# Altium integrated library Linear Technology Power Management Battery Management.IntLib: 626 symbols (part 7 of 56)
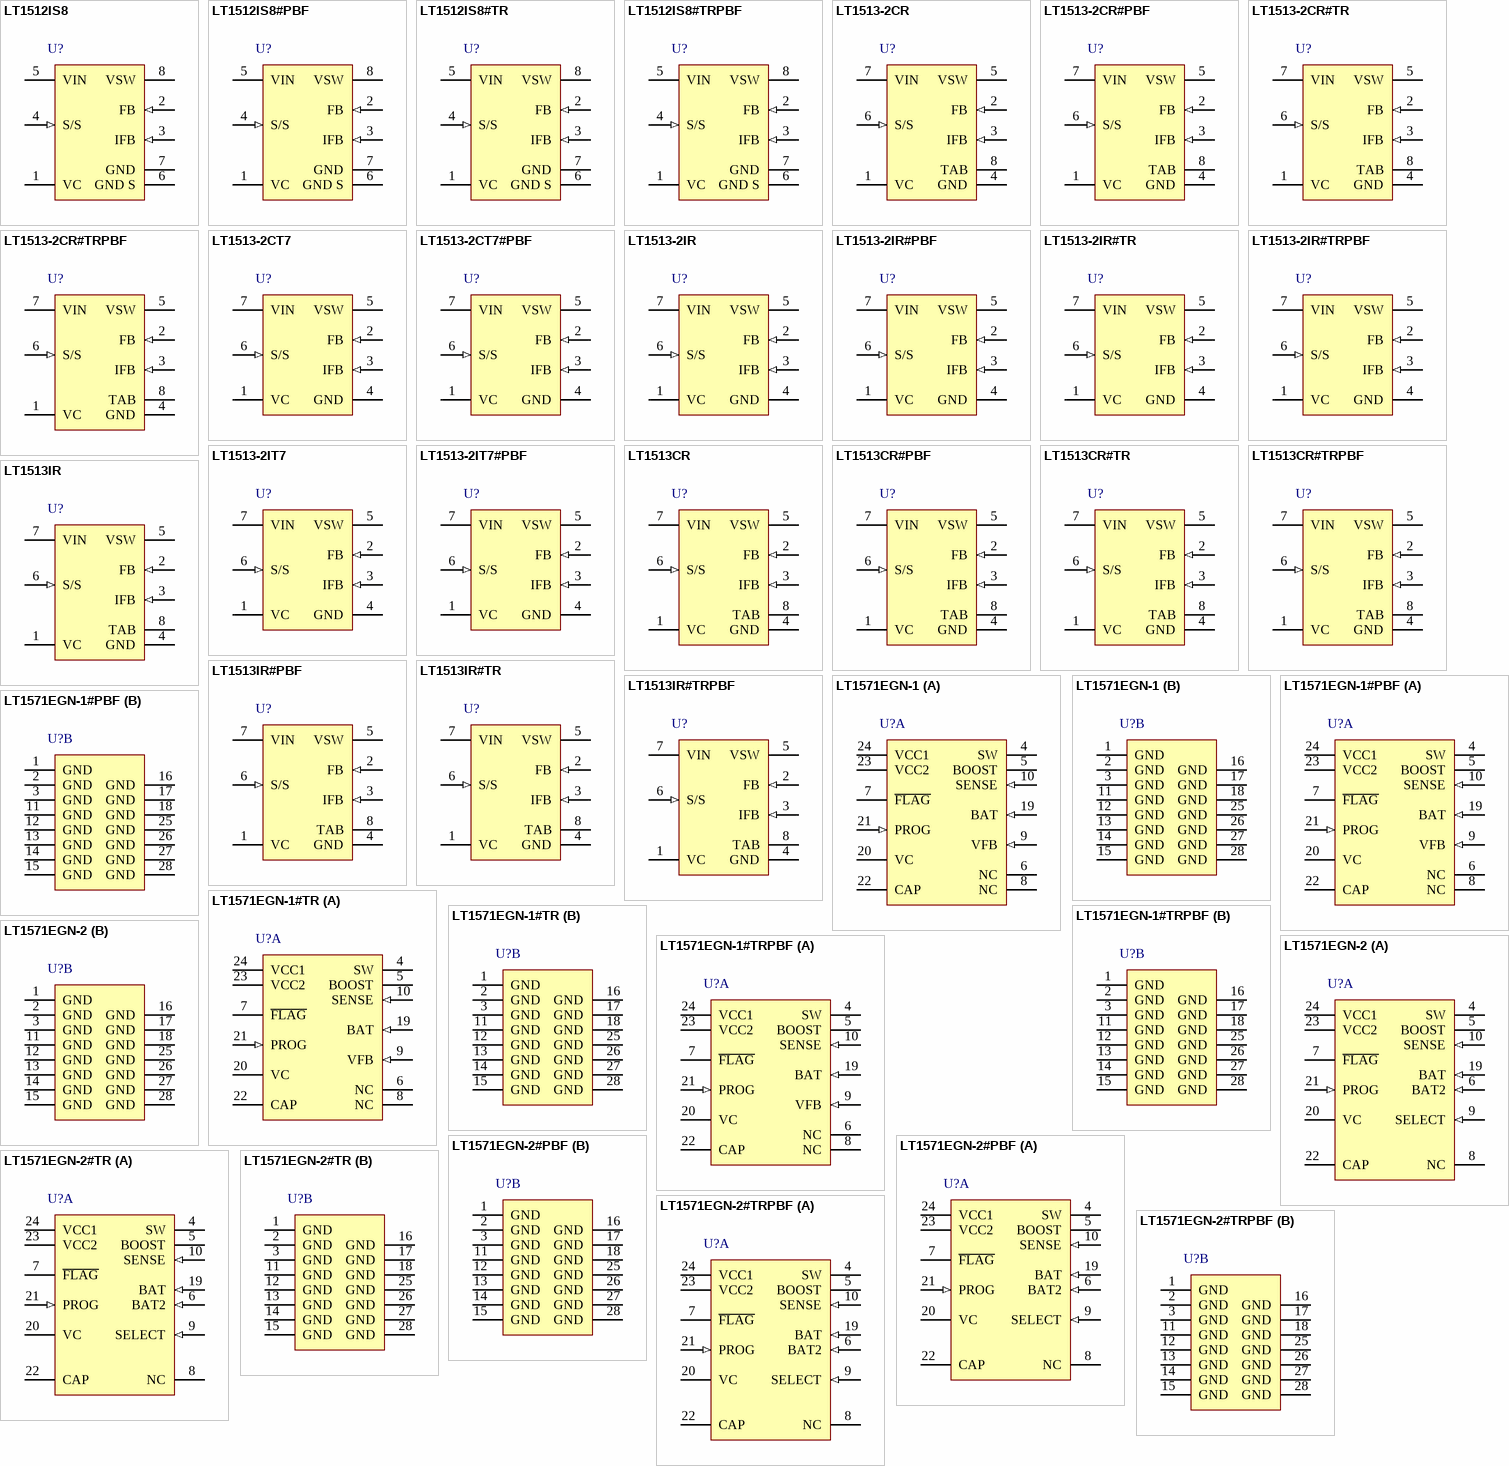
[diagram p28: symbols LT1512IS8 to LT1571EGN-2#TRPBF]

## LT1513-2IT7
designator U?
SEPIC Constant or Programmable-Current / Constant-Voltage Battery Charger, 2.4 to 30 V Vin, 7-pin FM (T7-7), -40 to 125 degC; Manufacturer: Linear Technology; PartNumber: LT1513-2IT7; Battery Chemistry: Li-Ion, Li-Polymer, NiCd, NiMH, Lead Acid; Charge Termination: External; Float Voltage: Adj; Max Charge Current(A): 2; Number of Cells: 1 to 4 (Li), 1 to 18 (Ni); Type of Charger: Switching, Buck-Boost; Vin Max(V): 30; Vin Min(V): 2.4; DatasheetVersion: Rev. A; PackageReference: T7-7; PackageDescription: 7-Pin Plastic TO-220, Body 10.2235 x 4.3815 mm, Pitch 1.27 mm; Supplier 1: Digi-Key; Supplier Part Number 1: LT1513-2IT7-ND; RoHS: FALSE; Mounting Technology: Through Hole; ComponentLink1Description: Manufacturer URL; ComponentLink1URL: http://www.linear.com/; ComponentLink2Description: Datasheet; ComponentLink2URL: http://cds.linear.com/docs/en/datasheet/1513fas.pdf; ComponentLink3Description: Package Specification; ComponentLink3URL: http://cds.linear.com/docs/en/datasheet/1513fas.pdf
footprint LT-T7-7-SD (FM, 7-Leads, Body 10.55x4.6mm, Pitch 1.27mm)
pins: 1 VC "The compensation pin is primarily used for frequency compensation, but it can also be used for soft starting and current limiting. It is the output of the error amplifier and the input of the current comparator. Peak switch (See Datasheet)", 2 FB (in) "The feedback pin is used for positive output voltage sensing. The R1/R2 voltage divider connected to FB defines Li-Ion float voltage at full charge, or acts as a voltage limiter for NiCd or NiMH applications. FB is the (See Datasheet)", 3 IFB (in) "The current feedback pin is used to sense charging current. It is the input to a current sense amplifier that controls charging current when the battery voltage is below a programmed limit. During constant-current operation, (See Datasheet)", 4 GND (power) "The ground pin is common to both control circuitry and switch current. VC, FB and S/S signals must be Kelvin and connected as close as possible to this pin. The TAB of the R package should also be connected to the power (See Datasheet)", 5 VSW (power) "The switch pin is the collector of the power switch, carrying up to 3A of current with fast rise and fall times. Keep the traces on this pin as short as possible to minimize radiation and voltage spikes. In particular, the (See Datasheet)", 6 S/S (in) "This pin can be used for shutdown and/or synchronization. It is logic level compatible, but can be tied to VIN if desired. It defaults to a high ON state when floated. A logic low state will shut down the charger to a (See Datasheet)", 7 VIN (power) "The input supply pin should be bypassed with a low ESR capacitor located right next to the IC chip. The grounded end of the capacitor must be connected directly to the ground plane to which the TAB is connected."

## LT1513-2IT7#PBF
designator U?
SEPIC Constant or Programmable-Current / Constant-Voltage Battery Charger, 2.4 to 30 V Vin, 7-pin FM (T7-7), -40 to 125 degC, Pb-Free; Manufacturer: Linear Technology; PartNumber: LT1513-2IT7#PBF; Battery Chemistry: Li-Ion, Li-Polymer, NiCd, NiMH, Lead Acid; Charge Termination: External; Float Voltage: Adj; Max Charge Current(A): 2; Number of Cells: 1 to 4 (Li), 1 to 18 (Ni); Type of Charger: Switching, Buck-Boost; Vin Max(V): 30; Vin Min(V): 2.4; DatasheetVersion: Rev. A; PackageReference: T7-7; PackageDescription: 7-Pin Plastic TO-220, Body 10.2235 x 4.3815 mm, Pitch 1.27 mm; Supplier 1: Digi-Key; Supplier Part Number 1: LT1513-2IT7#PBF-ND; RoHS: TRUE; Mounting Technology: Through Hole; ComponentLink1Description: Manufacturer URL; ComponentLink1URL: http://www.linear.com/; ComponentLink2Description: Datasheet; ComponentLink2URL: http://cds.linear.com/docs/en/datasheet/1513fas.pdf; ComponentLink3Description: Package Specification; ComponentLink3URL: http://cds.linear.com/docs/en/datasheet/1513fas.pdf
footprint LT-T7-7-SD (FM, 7-Leads, Body 10.55x4.6mm, Pitch 1.27mm)
pins: 1 VC "The compensation pin is primarily used for frequency compensation, but it can also be used for soft starting and current limiting. It is the output of the error amplifier and the input of the current comparator. Peak switch (See Datasheet)", 2 FB (in) "The feedback pin is used for positive output voltage sensing. The R1/R2 voltage divider connected to FB defines Li-Ion float voltage at full charge, or acts as a voltage limiter for NiCd or NiMH applications. FB is the (See Datasheet)", 3 IFB (in) "The current feedback pin is used to sense charging current. It is the input to a current sense amplifier that controls charging current when the battery voltage is below a programmed limit. During constant-current operation, (See Datasheet)", 4 GND (power) "The ground pin is common to both control circuitry and switch current. VC, FB and S/S signals must be Kelvin and connected as close as possible to this pin. The TAB of the R package should also be connected to the power (See Datasheet)", 5 VSW (power) "The switch pin is the collector of the power switch, carrying up to 3A of current with fast rise and fall times. Keep the traces on this pin as short as possible to minimize radiation and voltage spikes. In particular, the (See Datasheet)", 6 S/S (in) "This pin can be used for shutdown and/or synchronization. It is logic level compatible, but can be tied to VIN if desired. It defaults to a high ON state when floated. A logic low state will shut down the charger to a (See Datasheet)", 7 VIN (power) "The input supply pin should be bypassed with a low ESR capacitor located right next to the IC chip. The grounded end of the capacitor must be connected directly to the ground plane to which the TAB is connected."

## LT1513CR
designator U?
SEPIC Constant or Programmable-Current / Constant-Voltage Battery Charger, 2.4 to 30 V Vin, 7-pin DPAK (R-7), 0 to 125 degC; Manufacturer: Linear Technology; PartNumber: LT1513CR; Battery Chemistry: Li-Ion, Li-Polymer, NiCd, NiMH, Lead Acid; Charge Termination: External; Float Voltage: Adj; Max Charge Current(A): 2; Number of Cells: 1 to 4 (Li), 1 to 12 (Ni); Type of Charger: Switching, Buck-Boost; Vin Max(V): 30; Vin Min(V): 2.4; DatasheetVersion: Rev. A; PackageVersion: Rev. F, 05/2012; PackageReference: R-7; PackageDescription: 7-Pin Plastic DD Pak, Body 10.2235 x 8.89 mm, Pitch 1.27 mm; Supplier 1: Digi-Key; Supplier Part Number 1: LT1513CR-ND; RoHS: FALSE; Mounting Technology: Surface Mount; ComponentLink1Description: Manufacturer URL; ComponentLink1URL: http://www.linear.com/; ComponentLink2Description: Datasheet; ComponentLink2URL: http://cds.linear.com/docs/en/datasheet/1513fas.pdf; ComponentLink3Description: Package Specification; ComponentLink3URL: http://cds.linear.com/docs/en/packaging/05081462_F_R.pdf
footprint LT-R-7_N (DPAK, 7-Leads, Body 10.224x8.89mm, Pitch 1.27mm, IPC Medium Density)
footprint LT-R-7_L (DPAK, 7-Leads, Body 10.224x8.89mm, Pitch 1.27mm, IPC High Density)
footprint LT-R-7_M (DPAK, 7-Leads, Body 10.224x8.89mm, Pitch 1.27mm, IPC Low Density)
pins: 1 VC "The compensation pin is primarily used for frequency compensation, but it can also be used for soft starting and current limiting. It is the output of the error amplifier and the input of the current comparator. Peak switch (See Datasheet)", 2 FB (in) "The feedback pin is used for positive output voltage sensing. The R1/R2 voltage divider connected to FB defines Li-Ion float voltage at full charge, or acts as a voltage limiter for NiCd or NiMH applications. FB is the (See Datasheet)", 3 IFB (in) "The current feedback pin is used to sense charging current. It is the input to a current sense amplifier that controls charging current when the battery voltage is below a programmed limit. During constant-current operation, (See Datasheet)", 4 GND (power) "The ground pin is common to both control circuitry and switch current. VC, FB and S/S signals must be Kelvin and connected as close as possible to this pin. The TAB of the R package should also be connected to the power (See Datasheet)", 5 VSW (power) "The switch pin is the collector of the power switch, carrying up to 3A of current with fast rise and fall times. Keep the traces on this pin as short as possible to minimize radiation and voltage spikes. In particular, the (See Datasheet)", 6 S/S (in) "This pin can be used for shutdown and/or synchronization. It is logic level compatible, but can be tied to VIN if desired. It defaults to a high ON state when floated. A logic low state will shut down the charger to a (See Datasheet)", 7 VIN (power) "The input supply pin should be bypassed with a low ESR capacitor located right next to the IC chip. The grounded end of the capacitor must be connected directly to the ground plane to which the TAB is connected.", 8 TAB (power) "The TAB on the surface mount R package is electrically connected to the ground pin, but a low inductance connection must be made to both the TAB and the pin for proper circuit operation. See suggested PC layout in Figure 4."

## LT1513CR#PBF
designator U?
SEPIC Constant or Programmable-Current / Constant-Voltage Battery Charger, 2.4 to 30 V Vin, 7-pin DPAK (R-7), 0 to 125 degC, Pb-Free; Manufacturer: Linear Technology; PartNumber: LT1513CR#PBF; Battery Chemistry: Li-Ion, Li-Polymer, NiCd, NiMH, Lead Acid; Charge Termination: External; Float Voltage: Adj; Max Charge Current(A): 2; Number of Cells: 1 to 4 (Li), 1 to 12 (Ni); Type of Charger: Switching, Buck-Boost; Vin Max(V): 30; Vin Min(V): 2.4; DatasheetVersion: Rev. A; PackageVersion: Rev. F, 05/2012; PackageReference: R-7; PackageDescription: 7-Pin Plastic DD Pak, Body 10.2235 x 8.89 mm, Pitch 1.27 mm; Supplier 1: Digi-Key; Supplier Part Number 1: LT1513CR#PBF-ND; Supplier 2: Farnell; Supplier Part Number 2: 9560580; Supplier 3: Newark; Supplier Part Number 3: 57M4730; RoHS: TRUE; Mounting Technology: Surface Mount; ComponentLink1Description: Manufacturer URL; ComponentLink1URL: http://www.linear.com/; ComponentLink2Description: Datasheet; ComponentLink2URL: http://cds.linear.com/docs/en/datasheet/1513fas.pdf; ComponentLink3Description: Package Specification; ComponentLink3URL: http://cds.linear.com/docs/en/packaging/05081462_F_R.pdf
footprint LT-R-7_N (DPAK, 7-Leads, Body 10.224x8.89mm, Pitch 1.27mm, IPC Medium Density)
footprint LT-R-7_L (DPAK, 7-Leads, Body 10.224x8.89mm, Pitch 1.27mm, IPC High Density)
footprint LT-R-7_M (DPAK, 7-Leads, Body 10.224x8.89mm, Pitch 1.27mm, IPC Low Density)
pins: 1 VC "The compensation pin is primarily used for frequency compensation, but it can also be used for soft starting and current limiting. It is the output of the error amplifier and the input of the current comparator. Peak switch (See Datasheet)", 2 FB (in) "The feedback pin is used for positive output voltage sensing. The R1/R2 voltage divider connected to FB defines Li-Ion float voltage at full charge, or acts as a voltage limiter for NiCd or NiMH applications. FB is the (See Datasheet)", 3 IFB (in) "The current feedback pin is used to sense charging current. It is the input to a current sense amplifier that controls charging current when the battery voltage is below a programmed limit. During constant-current operation, (See Datasheet)", 4 GND (power) "The ground pin is common to both control circuitry and switch current. VC, FB and S/S signals must be Kelvin and connected as close as possible to this pin. The TAB of the R package should also be connected to the power (See Datasheet)", 5 VSW (power) "The switch pin is the collector of the power switch, carrying up to 3A of current with fast rise and fall times. Keep the traces on this pin as short as possible to minimize radiation and voltage spikes. In particular, the (See Datasheet)", 6 S/S (in) "This pin can be used for shutdown and/or synchronization. It is logic level compatible, but can be tied to VIN if desired. It defaults to a high ON state when floated. A logic low state will shut down the charger to a (See Datasheet)", 7 VIN (power) "The input supply pin should be bypassed with a low ESR capacitor located right next to the IC chip. The grounded end of the capacitor must be connected directly to the ground plane to which the TAB is connected.", 8 TAB (power) "The TAB on the surface mount R package is electrically connected to the ground pin, but a low inductance connection must be made to both the TAB and the pin for proper circuit operation. See suggested PC layout in Figure 4."

## LT1513CR#TR
designator U?
SEPIC Constant or Programmable-Current / Constant-Voltage Battery Charger, 2.4 to 30 V Vin, 7-pin DPAK (R-7), 0 to 125 degC, Tape and Reel; Manufacturer: Linear Technology; PartNumber: LT1513CR#TR; Battery Chemistry: Li-Ion, Li-Polymer, NiCd, NiMH, Lead Acid; Charge Termination: External; Float Voltage: Adj; Max Charge Current(A): 2; Number of Cells: 1 to 4 (Li), 1 to 12 (Ni); Type of Charger: Switching, Buck-Boost; Vin Max(V): 30; Vin Min(V): 2.4; DatasheetVersion: Rev. A; PackageVersion: Rev. F, 05/2012; PackageReference: R-7; PackageDescription: 7-Pin Plastic DD Pak, Body 10.2235 x 8.89 mm, Pitch 1.27 mm; Supplier 1: Digi-Key; Supplier Part Number 1: LT1513CR#TR-ND; Packing: Tape and Reel; RoHS: FALSE; Mounting Technology: Surface Mount; ComponentLink1Description: Manufacturer URL; ComponentLink1URL: http://www.linear.com/; ComponentLink2Description: Datasheet; ComponentLink2URL: http://cds.linear.com/docs/en/datasheet/1513fas.pdf; ComponentLink3Description: Package Specification; ComponentLink3URL: http://cds.linear.com/docs/en/packaging/05081462_F_R.pdf
footprint LT-R-7_N (DPAK, 7-Leads, Body 10.224x8.89mm, Pitch 1.27mm, IPC Medium Density)
footprint LT-R-7_L (DPAK, 7-Leads, Body 10.224x8.89mm, Pitch 1.27mm, IPC High Density)
footprint LT-R-7_M (DPAK, 7-Leads, Body 10.224x8.89mm, Pitch 1.27mm, IPC Low Density)
pins: 1 VC "The compensation pin is primarily used for frequency compensation, but it can also be used for soft starting and current limiting. It is the output of the error amplifier and the input of the current comparator. Peak switch (See Datasheet)", 2 FB (in) "The feedback pin is used for positive output voltage sensing. The R1/R2 voltage divider connected to FB defines Li-Ion float voltage at full charge, or acts as a voltage limiter for NiCd or NiMH applications. FB is the (See Datasheet)", 3 IFB (in) "The current feedback pin is used to sense charging current. It is the input to a current sense amplifier that controls charging current when the battery voltage is below a programmed limit. During constant-current operation, (See Datasheet)", 4 GND (power) "The ground pin is common to both control circuitry and switch current. VC, FB and S/S signals must be Kelvin and connected as close as possible to this pin. The TAB of the R package should also be connected to the power (See Datasheet)", 5 VSW (power) "The switch pin is the collector of the power switch, carrying up to 3A of current with fast rise and fall times. Keep the traces on this pin as short as possible to minimize radiation and voltage spikes. In particular, the (See Datasheet)", 6 S/S (in) "This pin can be used for shutdown and/or synchronization. It is logic level compatible, but can be tied to VIN if desired. It defaults to a high ON state when floated. A logic low state will shut down the charger to a (See Datasheet)", 7 VIN (power) "The input supply pin should be bypassed with a low ESR capacitor located right next to the IC chip. The grounded end of the capacitor must be connected directly to the ground plane to which the TAB is connected.", 8 TAB (power) "The TAB on the surface mount R package is electrically connected to the ground pin, but a low inductance connection must be made to both the TAB and the pin for proper circuit operation. See suggested PC layout in Figure 4."

## LT1513CR#TRPBF
designator U?
SEPIC Constant or Programmable-Current / Constant-Voltage Battery Charger, 2.4 to 30 V Vin, 7-pin DPAK (R-7), 0 to 125 degC, Pb-Free, Tape and Reel; Manufacturer: Linear Technology; PartNumber: LT1513CR#TRPBF; Battery Chemistry: Li-Ion, Li-Polymer, NiCd, NiMH, Lead Acid; Charge Termination: External; Float Voltage: Adj; Max Charge Current(A): 2; Number of Cells: 1 to 4 (Li), 1 to 12 (Ni); Type of Charger: Switching, Buck-Boost; Vin Max(V): 30; Vin Min(V): 2.4; DatasheetVersion: Rev. A; PackageVersion: Rev. F, 05/2012; PackageReference: R-7; PackageDescription: 7-Pin Plastic DD Pak, Body 10.2235 x 8.89 mm, Pitch 1.27 mm; Supplier 1: Digi-Key; Supplier Part Number 1: LT1513CR#TRPBF-ND; Packing: Tape and Reel; RoHS: TRUE; Mounting Technology: Surface Mount; ComponentLink1Description: Manufacturer URL; ComponentLink1URL: http://www.linear.com/; ComponentLink2Description: Datasheet; ComponentLink2URL: http://cds.linear.com/docs/en/datasheet/1513fas.pdf; ComponentLink3Description: Package Specification; ComponentLink3URL: http://cds.linear.com/docs/en/packaging/05081462_F_R.pdf
footprint LT-R-7_N (DPAK, 7-Leads, Body 10.224x8.89mm, Pitch 1.27mm, IPC Medium Density)
footprint LT-R-7_L (DPAK, 7-Leads, Body 10.224x8.89mm, Pitch 1.27mm, IPC High Density)
footprint LT-R-7_M (DPAK, 7-Leads, Body 10.224x8.89mm, Pitch 1.27mm, IPC Low Density)
pins: 1 VC "The compensation pin is primarily used for frequency compensation, but it can also be used for soft starting and current limiting. It is the output of the error amplifier and the input of the current comparator. Peak switch (See Datasheet)", 2 FB (in) "The feedback pin is used for positive output voltage sensing. The R1/R2 voltage divider connected to FB defines Li-Ion float voltage at full charge, or acts as a voltage limiter for NiCd or NiMH applications. FB is the (See Datasheet)", 3 IFB (in) "The current feedback pin is used to sense charging current. It is the input to a current sense amplifier that controls charging current when the battery voltage is below a programmed limit. During constant-current operation, (See Datasheet)", 4 GND (power) "The ground pin is common to both control circuitry and switch current. VC, FB and S/S signals must be Kelvin and connected as close as possible to this pin. The TAB of the R package should also be connected to the power (See Datasheet)", 5 VSW (power) "The switch pin is the collector of the power switch, carrying up to 3A of current with fast rise and fall times. Keep the traces on this pin as short as possible to minimize radiation and voltage spikes. In particular, the (See Datasheet)", 6 S/S (in) "This pin can be used for shutdown and/or synchronization. It is logic level compatible, but can be tied to VIN if desired. It defaults to a high ON state when floated. A logic low state will shut down the charger to a (See Datasheet)", 7 VIN (power) "The input supply pin should be bypassed with a low ESR capacitor located right next to the IC chip. The grounded end of the capacitor must be connected directly to the ground plane to which the TAB is connected.", 8 TAB (power) "The TAB on the surface mount R package is electrically connected to the ground pin, but a low inductance connection must be made to both the TAB and the pin for proper circuit operation. See suggested PC layout in Figure 4."

## LT1513IR
designator U?
SEPIC Constant or Programmable-Current / Constant-Voltage Battery Charger, 2.4 to 30 V Vin, 7-pin DPAK (R-7), -40 to 125 degC; Manufacturer: Linear Technology; PartNumber: LT1513IR; Battery Chemistry: Li-Ion, Li-Polymer, NiCd, NiMH, Lead Acid; Charge Termination: External; Float Voltage: Adj; Max Charge Current(A): 2; Number of Cells: 1 to 4 (Li), 1 to 12 (Ni); Type of Charger: Switching, Buck-Boost; Vin Max(V): 30; Vin Min(V): 2.4; DatasheetVersion: Rev. A; PackageVersion: Rev. F, 05/2012; PackageReference: R-7; PackageDescription: 7-Pin Plastic DD Pak, Body 10.2235 x 8.89 mm, Pitch 1.27 mm; Supplier 1: Digi-Key; Supplier Part Number 1: LT1513IR-ND; RoHS: FALSE; Mounting Technology: Surface Mount; ComponentLink1Description: Manufacturer URL; ComponentLink1URL: http://www.linear.com/; ComponentLink2Description: Datasheet; ComponentLink2URL: http://cds.linear.com/docs/en/datasheet/1513fas.pdf; ComponentLink3Description: Package Specification; ComponentLink3URL: http://cds.linear.com/docs/en/packaging/05081462_F_R.pdf
footprint LT-R-7_N (DPAK, 7-Leads, Body 10.224x8.89mm, Pitch 1.27mm, IPC Medium Density)
footprint LT-R-7_L (DPAK, 7-Leads, Body 10.224x8.89mm, Pitch 1.27mm, IPC High Density)
footprint LT-R-7_M (DPAK, 7-Leads, Body 10.224x8.89mm, Pitch 1.27mm, IPC Low Density)
pins: 1 VC "The compensation pin is primarily used for frequency compensation, but it can also be used for soft starting and current limiting. It is the output of the error amplifier and the input of the current comparator. Peak switch (See Datasheet)", 2 FB (in) "The feedback pin is used for positive output voltage sensing. The R1/R2 voltage divider connected to FB defines Li-Ion float voltage at full charge, or acts as a voltage limiter for NiCd or NiMH applications. FB is the (See Datasheet)", 3 IFB (in) "The current feedback pin is used to sense charging current. It is the input to a current sense amplifier that controls charging current when the battery voltage is below a programmed limit. During constant-current operation, (See Datasheet)", 4 GND (power) "The ground pin is common to both control circuitry and switch current. VC, FB and S/S signals must be Kelvin and connected as close as possible to this pin. The TAB of the R package should also be connected to the power (See Datasheet)", 5 VSW (power) "The switch pin is the collector of the power switch, carrying up to 3A of current with fast rise and fall times. Keep the traces on this pin as short as possible to minimize radiation and voltage spikes. In particular, the (See Datasheet)", 6 S/S (in) "This pin can be used for shutdown and/or synchronization. It is logic level compatible, but can be tied to VIN if desired. It defaults to a high ON state when floated. A logic low state will shut down the charger to a (See Datasheet)", 7 VIN (power) "The input supply pin should be bypassed with a low ESR capacitor located right next to the IC chip. The grounded end of the capacitor must be connected directly to the ground plane to which the TAB is connected.", 8 TAB (power) "The TAB on the surface mount R package is electrically connected to the ground pin, but a low inductance connection must be made to both the TAB and the pin for proper circuit operation. See suggested PC layout in Figure 4."

## LT1513IR#PBF
designator U?
SEPIC Constant or Programmable-Current / Constant-Voltage Battery Charger, 2.4 to 30 V Vin, 7-pin DPAK (R-7), -40 to 125 degC, Pb-Free; Manufacturer: Linear Technology; PartNumber: LT1513IR#PBF; Battery Chemistry: Li-Ion, Li-Polymer, NiCd, NiMH, Lead Acid; Charge Termination: External; Float Voltage: Adj; Max Charge Current(A): 2; Number of Cells: 1 to 4 (Li), 1 to 12 (Ni); Type of Charger: Switching, Buck-Boost; Vin Max(V): 30; Vin Min(V): 2.4; DatasheetVersion: Rev. A; PackageVersion: Rev. F, 05/2012; PackageReference: R-7; PackageDescription: 7-Pin Plastic DD Pak, Body 10.2235 x 8.89 mm, Pitch 1.27 mm; Supplier 1: Digi-Key; Supplier Part Number 1: LT1513IR#PBF-ND; Supplier 2: Newark; Supplier Part Number 2: 57M4734; RoHS: TRUE; Mounting Technology: Surface Mount; ComponentLink1Description: Manufacturer URL; ComponentLink1URL: http://www.linear.com/; ComponentLink2Description: Datasheet; ComponentLink2URL: http://cds.linear.com/docs/en/datasheet/1513fas.pdf; ComponentLink3Description: Package Specification; ComponentLink3URL: http://cds.linear.com/docs/en/packaging/05081462_F_R.pdf
footprint LT-R-7_N (DPAK, 7-Leads, Body 10.224x8.89mm, Pitch 1.27mm, IPC Medium Density)
footprint LT-R-7_L (DPAK, 7-Leads, Body 10.224x8.89mm, Pitch 1.27mm, IPC High Density)
footprint LT-R-7_M (DPAK, 7-Leads, Body 10.224x8.89mm, Pitch 1.27mm, IPC Low Density)
pins: 1 VC "The compensation pin is primarily used for frequency compensation, but it can also be used for soft starting and current limiting. It is the output of the error amplifier and the input of the current comparator. Peak switch (See Datasheet)", 2 FB (in) "The feedback pin is used for positive output voltage sensing. The R1/R2 voltage divider connected to FB defines Li-Ion float voltage at full charge, or acts as a voltage limiter for NiCd or NiMH applications. FB is the (See Datasheet)", 3 IFB (in) "The current feedback pin is used to sense charging current. It is the input to a current sense amplifier that controls charging current when the battery voltage is below a programmed limit. During constant-current operation, (See Datasheet)", 4 GND (power) "The ground pin is common to both control circuitry and switch current. VC, FB and S/S signals must be Kelvin and connected as close as possible to this pin. The TAB of the R package should also be connected to the power (See Datasheet)", 5 VSW (power) "The switch pin is the collector of the power switch, carrying up to 3A of current with fast rise and fall times. Keep the traces on this pin as short as possible to minimize radiation and voltage spikes. In particular, the (See Datasheet)", 6 S/S (in) "This pin can be used for shutdown and/or synchronization. It is logic level compatible, but can be tied to VIN if desired. It defaults to a high ON state when floated. A logic low state will shut down the charger to a (See Datasheet)", 7 VIN (power) "The input supply pin should be bypassed with a low ESR capacitor located right next to the IC chip. The grounded end of the capacitor must be connected directly to the ground plane to which the TAB is connected.", 8 TAB (power) "The TAB on the surface mount R package is electrically connected to the ground pin, but a low inductance connection must be made to both the TAB and the pin for proper circuit operation. See suggested PC layout in Figure 4."

## LT1513IR#TR
designator U?
SEPIC Constant or Programmable-Current / Constant-Voltage Battery Charger, 2.4 to 30 V Vin, 7-pin DPAK (R-7), -40 to 125 degC, Tape and Reel; Manufacturer: Linear Technology; PartNumber: LT1513IR#TR; Battery Chemistry: Li-Ion, Li-Polymer, NiCd, NiMH, Lead Acid; Charge Termination: External; Float Voltage: Adj; Max Charge Current(A): 2; Number of Cells: 1 to 4 (Li), 1 to 12 (Ni); Type of Charger: Switching, Buck-Boost; Vin Max(V): 30; Vin Min(V): 2.4; DatasheetVersion: Rev. A; PackageVersion: Rev. F, 05/2012; PackageReference: R-7; PackageDescription: 7-Pin Plastic DD Pak, Body 10.2235 x 8.89 mm, Pitch 1.27 mm; Supplier 1: Digi-Key; Supplier Part Number 1: LT1513IR#TR-ND; Packing: Tape and Reel; RoHS: FALSE; Mounting Technology: Surface Mount; ComponentLink1Description: Manufacturer URL; ComponentLink1URL: http://www.linear.com/; ComponentLink2Description: Datasheet; ComponentLink2URL: http://cds.linear.com/docs/en/datasheet/1513fas.pdf; ComponentLink3Description: Package Specification; ComponentLink3URL: http://cds.linear.com/docs/en/packaging/05081462_F_R.pdf
footprint LT-R-7_N (DPAK, 7-Leads, Body 10.224x8.89mm, Pitch 1.27mm, IPC Medium Density)
footprint LT-R-7_L (DPAK, 7-Leads, Body 10.224x8.89mm, Pitch 1.27mm, IPC High Density)
footprint LT-R-7_M (DPAK, 7-Leads, Body 10.224x8.89mm, Pitch 1.27mm, IPC Low Density)
pins: 1 VC "The compensation pin is primarily used for frequency compensation, but it can also be used for soft starting and current limiting. It is the output of the error amplifier and the input of the current comparator. Peak switch (See Datasheet)", 2 FB (in) "The feedback pin is used for positive output voltage sensing. The R1/R2 voltage divider connected to FB defines Li-Ion float voltage at full charge, or acts as a voltage limiter for NiCd or NiMH applications. FB is the (See Datasheet)", 3 IFB (in) "The current feedback pin is used to sense charging current. It is the input to a current sense amplifier that controls charging current when the battery voltage is below a programmed limit. During constant-current operation, (See Datasheet)", 4 GND (power) "The ground pin is common to both control circuitry and switch current. VC, FB and S/S signals must be Kelvin and connected as close as possible to this pin. The TAB of the R package should also be connected to the power (See Datasheet)", 5 VSW (power) "The switch pin is the collector of the power switch, carrying up to 3A of current with fast rise and fall times. Keep the traces on this pin as short as possible to minimize radiation and voltage spikes. In particular, the (See Datasheet)", 6 S/S (in) "This pin can be used for shutdown and/or synchronization. It is logic level compatible, but can be tied to VIN if desired. It defaults to a high ON state when floated. A logic low state will shut down the charger to a (See Datasheet)", 7 VIN (power) "The input supply pin should be bypassed with a low ESR capacitor located right next to the IC chip. The grounded end of the capacitor must be connected directly to the ground plane to which the TAB is connected.", 8 TAB (power) "The TAB on the surface mount R package is electrically connected to the ground pin, but a low inductance connection must be made to both the TAB and the pin for proper circuit operation. See suggested PC layout in Figure 4."

## LT1513IR#TRPBF
designator U?
SEPIC Constant or Programmable-Current / Constant-Voltage Battery Charger, 2.4 to 30 V Vin, 7-pin DPAK (R-7), -40 to 125 degC, Pb-Free, Tape and Reel; Manufacturer: Linear Technology; PartNumber: LT1513IR#TRPBF; Battery Chemistry: Li-Ion, Li-Polymer, NiCd, NiMH, Lead Acid; Charge Termination: External; Float Voltage: Adj; Max Charge Current(A): 2; Number of Cells: 1 to 4 (Li), 1 to 12 (Ni); Type of Charger: Switching, Buck-Boost; Vin Max(V): 30; Vin Min(V): 2.4; DatasheetVersion: Rev. A; PackageVersion: Rev. F, 05/2012; PackageReference: R-7; PackageDescription: 7-Pin Plastic DD Pak, Body 10.2235 x 8.89 mm, Pitch 1.27 mm; Supplier 1: Digi-Key; Supplier Part Number 1: LT1513IR#TRPBF-ND; Packing: Tape and Reel; RoHS: TRUE; Mounting Technology: Surface Mount; ComponentLink1Description: Manufacturer URL; ComponentLink1URL: http://www.linear.com/; ComponentLink2Description: Datasheet; ComponentLink2URL: http://cds.linear.com/docs/en/datasheet/1513fas.pdf; ComponentLink3Description: Package Specification; ComponentLink3URL: http://cds.linear.com/docs/en/packaging/05081462_F_R.pdf
footprint LT-R-7_N (DPAK, 7-Leads, Body 10.224x8.89mm, Pitch 1.27mm, IPC Medium Density)
footprint LT-R-7_L (DPAK, 7-Leads, Body 10.224x8.89mm, Pitch 1.27mm, IPC High Density)
footprint LT-R-7_M (DPAK, 7-Leads, Body 10.224x8.89mm, Pitch 1.27mm, IPC Low Density)
pins: 1 VC "The compensation pin is primarily used for frequency compensation, but it can also be used for soft starting and current limiting. It is the output of the error amplifier and the input of the current comparator. Peak switch (See Datasheet)", 2 FB (in) "The feedback pin is used for positive output voltage sensing. The R1/R2 voltage divider connected to FB defines Li-Ion float voltage at full charge, or acts as a voltage limiter for NiCd or NiMH applications. FB is the (See Datasheet)", 3 IFB (in) "The current feedback pin is used to sense charging current. It is the input to a current sense amplifier that controls charging current when the battery voltage is below a programmed limit. During constant-current operation, (See Datasheet)", 4 GND (power) "The ground pin is common to both control circuitry and switch current. VC, FB and S/S signals must be Kelvin and connected as close as possible to this pin. The TAB of the R package should also be connected to the power (See Datasheet)", 5 VSW (power) "The switch pin is the collector of the power switch, carrying up to 3A of current with fast rise and fall times. Keep the traces on this pin as short as possible to minimize radiation and voltage spikes. In particular, the (See Datasheet)", 6 S/S (in) "This pin can be used for shutdown and/or synchronization. It is logic level compatible, but can be tied to VIN if desired. It defaults to a high ON state when floated. A logic low state will shut down the charger to a (See Datasheet)", 7 VIN (power) "The input supply pin should be bypassed with a low ESR capacitor located right next to the IC chip. The grounded end of the capacitor must be connected directly to the ground plane to which the TAB is connected.", 8 TAB (power) "The TAB on the surface mount R package is electrically connected to the ground pin, but a low inductance connection must be made to both the TAB and the pin for proper circuit operation. See suggested PC layout in Figure 4."

## LT1571EGN-1
designator U?
Integrated Switching Charger with C/10 Detection / Indicator, 6.2 to 27 V Vin, 28-pin SOP (GN-28), -40 to 85 degC; Manufacturer: Linear Technology; PartNumber: LT1571EGN-1; Battery Chemistry: Li-Ion, Li-Polymer; Charge Termination: Microcontroller; Float Voltage: Adj; Max Charge Current(A): 1.5; Number of Cells: 1, 2, Adj; Vin Max(V): 27; Vin Min(V): 6.2; PackageVersion: Rev. B, 03/2012; PackageReference: GN-28; PackageDescription: 28-Pin Plastic SSOP, Body 9.9 x 3.9 mm, Pitch 0.635 mm; Supplier 1: Digi-Key; Supplier Part Number 1: LT1571EGN-1-ND; RoHS: FALSE; Type of Charger: Switching; Mounting Technology: Surface Mount; ComponentLink1Description: Manufacturer URL; ComponentLink1URL: http://www.linear.com/; ComponentLink2Description: Datasheet; ComponentLink2URL: http://cds.linear.com/docs/en/datasheet/1571f.pdf; ComponentLink3Description: Package Specification; ComponentLink3URL: http://cds.linear.com/docs/en/packaging/05081641_B_GN28.pdf
footprint LT-GN-28_N (SOP, 28-Leads, Body 9.98x3.98mm, Pitch 0.635mm, IPC Medium Density)
footprint LT-GN-28_L (SOP, 28-Leads, Body 9.98x3.98mm, Pitch 0.635mm, IPC High Density)
footprint LT-GN-28_M (SOP, 28-Leads, Body 9.98x3.98mm, Pitch 0.635mm, IPC Low Density)
part A pins: 4 SW (power) "NPN Power Switch Emitter. The Schottky catch diode must be placed with very short lead length in close proximity to SW pin and GND", 5 BOOST "This pin is used to bootstrap and drive the NPN switch to a low on-voltage for low power dissipation. VBOOST= VCC + VBAT when switch is on. For less power dissipation use VBOOST = 3V to 6V (see Applications Information).", 6 NC, 7 ~{FLAG} (oc) "This pin is an open-collector output that is used to indicate end of charge. The F\L\A\G\ pin is driven low when the charge current drops below a certain percentage of the programmed charge current as explained in the CAP (See Datasheet)", 8 NC, 9 VFB (in) "This is the input to the amplifier VA (see Block Diagram) with a threshold of 2.465V. Typical input current is about 3nA. When charging batteries, VA monitors the battery voltage and reduces charging current when battery (See Datasheet)", 10 SENSE (in) "Current Amplifier CA1 Input. Sensing can be at either terminal of the battery. Note that current sense resistor RS1 (0.08W) is between SENSE and BAT pins.", 19 BAT (in) "Current Amplifier CA1 Input.", 20 VC "This is the inner loop control signal of the current mode PWM. Switching starts at 0.9V. In normal operation, a higher VC corresponds to a higher charge current. A capacitor of at least 0.1uF to GND filters out noise and (See Datasheet)", 21 PROG (in) "This pin is for programming the charge current and for system loop compensation. Charge current is regulated to 2000x the current drawn from the PROG pin. During normal operation, VPROG stays close to 2.465V. If it is (See Datasheet)", 22 CAP "A 0.1uF capacitor from CAP to ground is needed to filter the sampled charge current signal. This filtered signal is used to set the F\L\A\G\ pin when the charge current drops to 20% of the programmed maximum charge current. (See Datasheet)", 23 VCC2 (power) "Input Supply. For good bypass, a low ESR capacitor of 10uF or higher is required, with the lead length kept to a minimum. VCC should be between 8V and 26V and at least 2V higher than VBAT for VBAT less than 10V, and 2.5V (See Datasheet)", 24 VCC1 (power) "Input Supply. For good bypass, a low ESR capacitor of 10uF or higher is required, with the lead length kept to a minimum. VCC should be between 8V and 26V and at least 2V higher than VBAT for VBAT less than 10V, and 2.5V (See Datasheet)"
part B pins: 1 GND (power) "Ground Pin.", 2 GND (power) "Ground Pin.", 3 GND (power) "Ground Pin.", 11 GND (power) "Ground Pin.", 12 GND (power) "Ground Pin.", 13 GND (power) "Ground Pin.", 14 GND (power) "Ground Pin.", 15 GND (power) "Ground Pin.", 16 GND (power) "Ground Pin.", 17 GND (power) "Ground Pin.", 18 GND (power) "Ground Pin.", 25 GND (power) "Ground Pin.", 26 GND (power) "Ground Pin.", 27 GND (power) "Ground Pin.", 28 GND (power) "Ground Pin."

## LT1571EGN-1#PBF
designator U?
Integrated Switching Charger with C/10 Detection / Indicator, 6.2 to 27 V Vin, 28-pin SOP (GN-28), -40 to 85 degC, Pb-Free; Manufacturer: Linear Technology; PartNumber: LT1571EGN-1#PBF; Battery Chemistry: Li-Ion, Li-Polymer; Charge Termination: Microcontroller; Float Voltage: Adj; Max Charge Current(A): 1.5; Number of Cells: 1, 2, Adj; Vin Max(V): 27; Vin Min(V): 6.2; PackageVersion: Rev. B, 03/2012; PackageReference: GN-28; PackageDescription: 28-Pin Plastic SSOP, Body 9.9 x 3.9 mm, Pitch 0.635 mm; Supplier 1: Digi-Key; Supplier Part Number 1: LT1571EGN-1#PBF-ND; Supplier 2: Farnell; Supplier Part Number 2: 1273483; Supplier 3: Newark; Supplier Part Number 3: 58M0992; RoHS: TRUE; Type of Charger: Switching; Mounting Technology: Surface Mount; ComponentLink1Description: Manufacturer URL; ComponentLink1URL: http://www.linear.com/; ComponentLink2Description: Datasheet; ComponentLink2URL: http://cds.linear.com/docs/en/datasheet/1571f.pdf; ComponentLink3Description: Package Specification; ComponentLink3URL: http://cds.linear.com/docs/en/packaging/05081641_B_GN28.pdf
footprint LT-GN-28_N (SOP, 28-Leads, Body 9.98x3.98mm, Pitch 0.635mm, IPC Medium Density)
footprint LT-GN-28_L (SOP, 28-Leads, Body 9.98x3.98mm, Pitch 0.635mm, IPC High Density)
footprint LT-GN-28_M (SOP, 28-Leads, Body 9.98x3.98mm, Pitch 0.635mm, IPC Low Density)
part A pins: 4 SW (power) "NPN Power Switch Emitter. The Schottky catch diode must be placed with very short lead length in close proximity to SW pin and GND", 5 BOOST "This pin is used to bootstrap and drive the NPN switch to a low on-voltage for low power dissipation. VBOOST= VCC + VBAT when switch is on. For less power dissipation use VBOOST = 3V to 6V (see Applications Information).", 6 NC, 7 ~{FLAG} (oc) "This pin is an open-collector output that is used to indicate end of charge. The F\L\A\G\ pin is driven low when the charge current drops below a certain percentage of the programmed charge current as explained in the CAP (See Datasheet)", 8 NC, 9 VFB (in) "This is the input to the amplifier VA (see Block Diagram) with a threshold of 2.465V. Typical input current is about 3nA. When charging batteries, VA monitors the battery voltage and reduces charging current when battery (See Datasheet)", 10 SENSE (in) "Current Amplifier CA1 Input. Sensing can be at either terminal of the battery. Note that current sense resistor RS1 (0.08W) is between SENSE and BAT pins.", 19 BAT (in) "Current Amplifier CA1 Input.", 20 VC "This is the inner loop control signal of the current mode PWM. Switching starts at 0.9V. In normal operation, a higher VC corresponds to a higher charge current. A capacitor of at least 0.1uF to GND filters out noise and (See Datasheet)", 21 PROG (in) "This pin is for programming the charge current and for system loop compensation. Charge current is regulated to 2000x the current drawn from the PROG pin. During normal operation, VPROG stays close to 2.465V. If it is (See Datasheet)", 22 CAP "A 0.1uF capacitor from CAP to ground is needed to filter the sampled charge current signal. This filtered signal is used to set the F\L\A\G\ pin when the charge current drops to 20% of the programmed maximum charge current. (See Datasheet)", 23 VCC2 (power) "Input Supply. For good bypass, a low ESR capacitor of 10uF or higher is required, with the lead length kept to a minimum. VCC should be between 8V and 26V and at least 2V higher than VBAT for VBAT less than 10V, and 2.5V (See Datasheet)", 24 VCC1 (power) "Input Supply. For good bypass, a low ESR capacitor of 10uF or higher is required, with the lead length kept to a minimum. VCC should be between 8V and 26V and at least 2V higher than VBAT for VBAT less than 10V, and 2.5V (See Datasheet)"
part B pins: 1 GND (power) "Ground Pin.", 2 GND (power) "Ground Pin.", 3 GND (power) "Ground Pin.", 11 GND (power) "Ground Pin.", 12 GND (power) "Ground Pin.", 13 GND (power) "Ground Pin.", 14 GND (power) "Ground Pin.", 15 GND (power) "Ground Pin.", 16 GND (power) "Ground Pin.", 17 GND (power) "Ground Pin.", 18 GND (power) "Ground Pin.", 25 GND (power) "Ground Pin.", 26 GND (power) "Ground Pin.", 27 GND (power) "Ground Pin.", 28 GND (power) "Ground Pin."

## LT1571EGN-1#TR
designator U?
Integrated Switching Charger with C/10 Detection / Indicator, 6.2 to 27 V Vin, 28-pin SOP (GN-28), -40 to 85 degC, Tape and Reel; Manufacturer: Linear Technology; PartNumber: LT1571EGN-1#TR; Battery Chemistry: Li-Ion, Li-Polymer; Charge Termination: Microcontroller; Float Voltage: Adj; Max Charge Current(A): 1.5; Number of Cells: 1, 2, Adj; Vin Max(V): 27; Vin Min(V): 6.2; PackageVersion: Rev. B, 03/2012; PackageReference: GN-28; PackageDescription: 28-Pin Plastic SSOP, Body 9.9 x 3.9 mm, Pitch 0.635 mm; Supplier 1: Digi-Key; Supplier Part Number 1: LT1571EGN-1#TR-ND; Packing: Tape and Reel; RoHS: FALSE; Type of Charger: Switching; Mounting Technology: Surface Mount; ComponentLink1Description: Manufacturer URL; ComponentLink1URL: http://www.linear.com/; ComponentLink2Description: Datasheet; ComponentLink2URL: http://cds.linear.com/docs/en/datasheet/1571f.pdf; ComponentLink3Description: Package Specification; ComponentLink3URL: http://cds.linear.com/docs/en/packaging/05081641_B_GN28.pdf
footprint LT-GN-28_N (SOP, 28-Leads, Body 9.98x3.98mm, Pitch 0.635mm, IPC Medium Density)
footprint LT-GN-28_L (SOP, 28-Leads, Body 9.98x3.98mm, Pitch 0.635mm, IPC High Density)
footprint LT-GN-28_M (SOP, 28-Leads, Body 9.98x3.98mm, Pitch 0.635mm, IPC Low Density)
part A pins: 4 SW (power) "NPN Power Switch Emitter. The Schottky catch diode must be placed with very short lead length in close proximity to SW pin and GND", 5 BOOST "This pin is used to bootstrap and drive the NPN switch to a low on-voltage for low power dissipation. VBOOST= VCC + VBAT when switch is on. For less power dissipation use VBOOST = 3V to 6V (see Applications Information).", 6 NC, 7 ~{FLAG} (oc) "This pin is an open-collector output that is used to indicate end of charge. The F\L\A\G\ pin is driven low when the charge current drops below a certain percentage of the programmed charge current as explained in the CAP (See Datasheet)", 8 NC, 9 VFB (in) "This is the input to the amplifier VA (see Block Diagram) with a threshold of 2.465V. Typical input current is about 3nA. When charging batteries, VA monitors the battery voltage and reduces charging current when battery (See Datasheet)", 10 SENSE (in) "Current Amplifier CA1 Input. Sensing can be at either terminal of the battery. Note that current sense resistor RS1 (0.08W) is between SENSE and BAT pins.", 19 BAT (in) "Current Amplifier CA1 Input.", 20 VC "This is the inner loop control signal of the current mode PWM. Switching starts at 0.9V. In normal operation, a higher VC corresponds to a higher charge current. A capacitor of at least 0.1uF to GND filters out noise and (See Datasheet)", 21 PROG (in) "This pin is for programming the charge current and for system loop compensation. Charge current is regulated to 2000x the current drawn from the PROG pin. During normal operation, VPROG stays close to 2.465V. If it is (See Datasheet)", 22 CAP "A 0.1uF capacitor from CAP to ground is needed to filter the sampled charge current signal. This filtered signal is used to set the F\L\A\G\ pin when the charge current drops to 20% of the programmed maximum charge current. (See Datasheet)", 23 VCC2 (power) "Input Supply. For good bypass, a low ESR capacitor of 10uF or higher is required, with the lead length kept to a minimum. VCC should be between 8V and 26V and at least 2V higher than VBAT for VBAT less than 10V, and 2.5V (See Datasheet)", 24 VCC1 (power) "Input Supply. For good bypass, a low ESR capacitor of 10uF or higher is required, with the lead length kept to a minimum. VCC should be between 8V and 26V and at least 2V higher than VBAT for VBAT less than 10V, and 2.5V (See Datasheet)"
part B pins: 1 GND (power) "Ground Pin.", 2 GND (power) "Ground Pin.", 3 GND (power) "Ground Pin.", 11 GND (power) "Ground Pin.", 12 GND (power) "Ground Pin.", 13 GND (power) "Ground Pin.", 14 GND (power) "Ground Pin.", 15 GND (power) "Ground Pin.", 16 GND (power) "Ground Pin.", 17 GND (power) "Ground Pin.", 18 GND (power) "Ground Pin.", 25 GND (power) "Ground Pin.", 26 GND (power) "Ground Pin.", 27 GND (power) "Ground Pin.", 28 GND (power) "Ground Pin."

## LT1571EGN-1#TRPBF
designator U?
Integrated Switching Charger with C/10 Detection / Indicator, 6.2 to 27 V Vin, 28-pin SOP (GN-28), -40 to 85 degC, Pb-Free, Tape and Reel; Manufacturer: Linear Technology; PartNumber: LT1571EGN-1#TRPBF; Battery Chemistry: Li-Ion, Li-Polymer; Charge Termination: Microcontroller; Float Voltage: Adj; Max Charge Current(A): 1.5; Number of Cells: 1, 2, Adj; Vin Max(V): 27; Vin Min(V): 6.2; PackageVersion: Rev. B, 03/2012; PackageReference: GN-28; PackageDescription: 28-Pin Plastic SSOP, Body 9.9 x 3.9 mm, Pitch 0.635 mm; Supplier 1: Digi-Key; Supplier Part Number 1: LT1571EGN-1#TRPBF-ND; Packing: Tape and Reel; RoHS: TRUE; Type of Charger: Switching; Mounting Technology: Surface Mount; ComponentLink1Description: Manufacturer URL; ComponentLink1URL: http://www.linear.com/; ComponentLink2Description: Datasheet; ComponentLink2URL: http://cds.linear.com/docs/en/datasheet/1571f.pdf; ComponentLink3Description: Package Specification; ComponentLink3URL: http://cds.linear.com/docs/en/packaging/05081641_B_GN28.pdf
footprint LT-GN-28_N (SOP, 28-Leads, Body 9.98x3.98mm, Pitch 0.635mm, IPC Medium Density)
footprint LT-GN-28_L (SOP, 28-Leads, Body 9.98x3.98mm, Pitch 0.635mm, IPC High Density)
footprint LT-GN-28_M (SOP, 28-Leads, Body 9.98x3.98mm, Pitch 0.635mm, IPC Low Density)
part A pins: 4 SW (power) "NPN Power Switch Emitter. The Schottky catch diode must be placed with very short lead length in close proximity to SW pin and GND", 5 BOOST "This pin is used to bootstrap and drive the NPN switch to a low on-voltage for low power dissipation. VBOOST= VCC + VBAT when switch is on. For less power dissipation use VBOOST = 3V to 6V (see Applications Information).", 6 NC, 7 ~{FLAG} (oc) "This pin is an open-collector output that is used to indicate end of charge. The F\L\A\G\ pin is driven low when the charge current drops below a certain percentage of the programmed charge current as explained in the CAP (See Datasheet)", 8 NC, 9 VFB (in) "This is the input to the amplifier VA (see Block Diagram) with a threshold of 2.465V. Typical input current is about 3nA. When charging batteries, VA monitors the battery voltage and reduces charging current when battery (See Datasheet)", 10 SENSE (in) "Current Amplifier CA1 Input. Sensing can be at either terminal of the battery. Note that current sense resistor RS1 (0.08W) is between SENSE and BAT pins.", 19 BAT (in) "Current Amplifier CA1 Input.", 20 VC "This is the inner loop control signal of the current mode PWM. Switching starts at 0.9V. In normal operation, a higher VC corresponds to a higher charge current. A capacitor of at least 0.1uF to GND filters out noise and (See Datasheet)", 21 PROG (in) "This pin is for programming the charge current and for system loop compensation. Charge current is regulated to 2000x the current drawn from the PROG pin. During normal operation, VPROG stays close to 2.465V. If it is (See Datasheet)", 22 CAP "A 0.1uF capacitor from CAP to ground is needed to filter the sampled charge current signal. This filtered signal is used to set the F\L\A\G\ pin when the charge current drops to 20% of the programmed maximum charge current. (See Datasheet)", 23 VCC2 (power) "Input Supply. For good bypass, a low ESR capacitor of 10uF or higher is required, with the lead length kept to a minimum. VCC should be between 8V and 26V and at least 2V higher than VBAT for VBAT less than 10V, and 2.5V (See Datasheet)", 24 VCC1 (power) "Input Supply. For good bypass, a low ESR capacitor of 10uF or higher is required, with the lead length kept to a minimum. VCC should be between 8V and 26V and at least 2V higher than VBAT for VBAT less than 10V, and 2.5V (See Datasheet)"
part B pins: 1 GND (power) "Ground Pin.", 2 GND (power) "Ground Pin.", 3 GND (power) "Ground Pin.", 11 GND (power) "Ground Pin.", 12 GND (power) "Ground Pin.", 13 GND (power) "Ground Pin.", 14 GND (power) "Ground Pin.", 15 GND (power) "Ground Pin.", 16 GND (power) "Ground Pin.", 17 GND (power) "Ground Pin.", 18 GND (power) "Ground Pin.", 25 GND (power) "Ground Pin.", 26 GND (power) "Ground Pin.", 27 GND (power) "Ground Pin.", 28 GND (power) "Ground Pin."